# Altium schematic symbol library zener_bi_directional.SchLib: 1 symbol
Pins are listed as number, name and electrical type; pins without a type are passive.

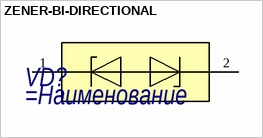
[diagram p0: symbol ZENER-BI-DIRECTIONAL]

## ZENER-BI-DIRECTIONAL
designator VD?
=Описание
pins: 1, 2